# EAGLE library part 6861XX189122_686114189122 (library Wurth_Connectors_WR-FPC)
WR-FPC 1.00 mm SMT ZIF Horizontal Back Locking Dual Contact KIND PROPERTIES Pitch 1 mm MATERIAL PROPERTIES Insulator Material LCP Contact Material Phosphor Bronze Contact Plating 80 (µ") Tin over 50 (µ") Nickel Contact Type Stamped Solder Tabs Brass <https://www.we-online.com/catalog/media/o680359v209%20family-wr-fpc-68xx189122.jpg> Details see: https://www.we-online.com/catalog/en/WR_FPC_1_00_MM_ZIF_BACK_LOCKING_DUAL_CONTACT Created by Ella Wu 2022-03-31 2022(C) Wurth Elektronik
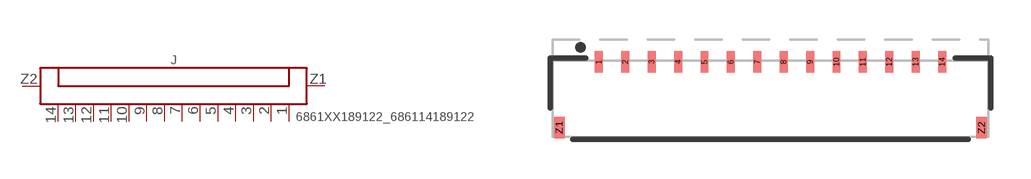
[diagram p231: symbol with the pads of 686114189122; footprint 686114189122]

Designator prefix J

## 6861XX189122_686114189122 (CONTACT-RESISTANCE: 30mOhm; DATASHEET-URL: https://www.we-online.com/catalog/datasheet/686114189122.pdf; IR: 0.5A; L: 16.5mm; PACKAGING: Tape and Reel; PART-NUMBER: 686114189122; PINS: 14; PITCH: 1mm; TYPE: Horizontal; VALUE: 686114189122; WORKING-VOLTAGE: 50V(AC))  [686114189122]
1  1  pas
2  2  pas
3  3  pas
4  4  pas
5  5  pas
6  6  pas
7  7  pas
8  8  pas
9  9  pas
10  10  pas
11  11  pas
12  12  pas
13  13  pas
14  14  pas
Z1  Z1  pas
Z2  Z2  pas

## Footprint 686114189122 (pad centres in mm)
WR-FPC 1.00 mm SMT ZIF Horizontal Back Locking Dual Contact 14pins
smd 0.3 x 0.8: 1 -6.5,1.25; 2 -5.5,1.25; 3 -4.5,1.25; 4 -3.5,1.25; 5 -2.5,1.25; 6 -1.5,1.25; 7 -0.5,1.25; 8 0.5,1.25; 9 1.5,1.25; 10 2.5,1.25; 11 3.5,1.25; 12 4.5,1.25; 13 5.5,1.25; 14 6.5,1.25
smd 0.4 x 0.8: Z1 -8,-1.25; Z2 8,-1.25